# Altium footprint library Inductor-SMD.PcbLib: 1 footprints
Each footprint in its own frame and in the unit in brackets; x right, y up, seen from the top. Pads: shape width x height; smd on the part's side, far side on the other; paste and mask are expansions set on the pad; w line width, h text height; cw(c..) or ccw(c..) is an arc to the next point about the centre after c.
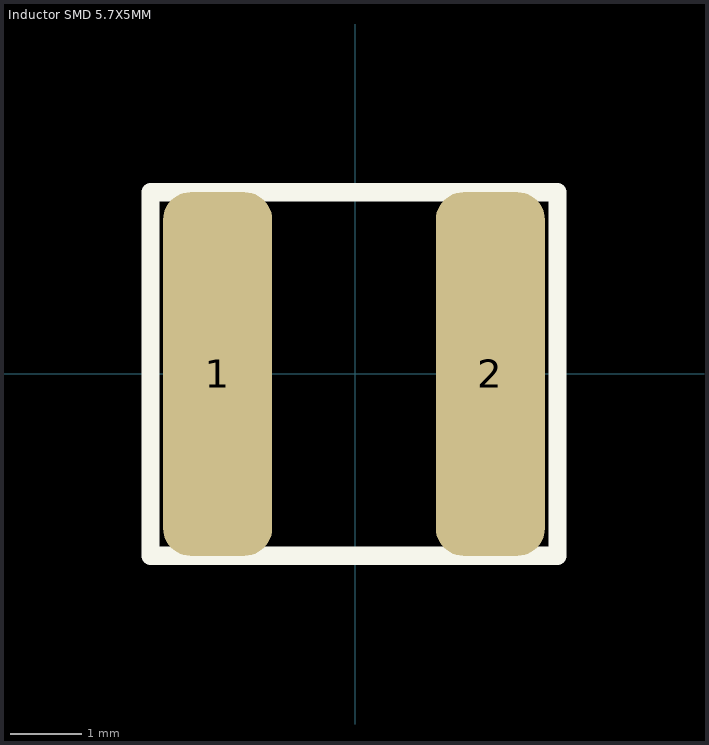
[diagram p0: the footprint, top view; thin cyan lines are the x and y axes]

## Inductor SMD 5.7X5MM [mil] "Inductor SMD 5.7X5MM"
pads (2):
  rrect50% 60x200 smd: 1(-75.68,-0.11) 2(74.32,-0.11)
Top Overlay:
  lines w10: -112.68,-100.11 -112.68,99.89 111.32,99.89 111.32,-100.11 -112.68,-100.11
3D body "Inductor-SMD-6X5MM.stp": height 177.56, standoff 0, extent -106.3,-98.42 106.3,98.43